# Altium footprint library 5mm LED.PcbLib: 1 footprints
Each footprint in its own frame and in the unit in brackets; x right, y up, seen from the top. Pads: shape width x height; smd on the part's side, far side on the other; paste and mask are expansions set on the pad; w line width, h text height; cw(c..) or ccw(c..) is an arc to the next point about the centre after c.
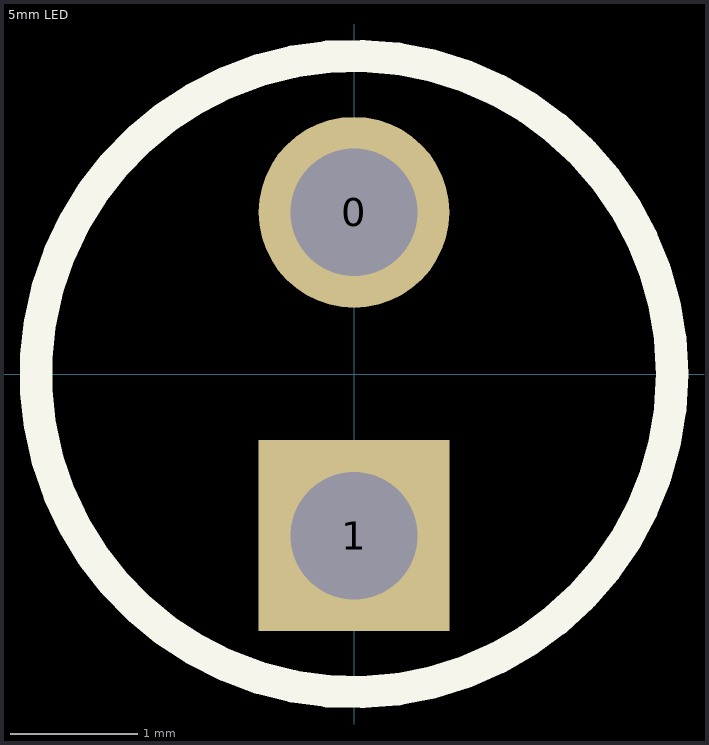
[diagram p0: the footprint, top view; thin cyan lines are the x and y axes]

## 5mm LED [mm]
height 8.2
pads (2):
  round 1.5 hole 1: 0(0,1.27)
  rect 1.5x1.5 hole 1: 1(0,-1.27)
Top Overlay:
  circle w0.254: c0,0 r2.5
3D body: height 8.2, standoff 0, extent -2.627,-2.627 2.627,2.627